# Altium schematic symbol library SCHLIBS.SchLib: 9 symbols
Pins are listed as number, name and electrical type; pins without a type are passive.

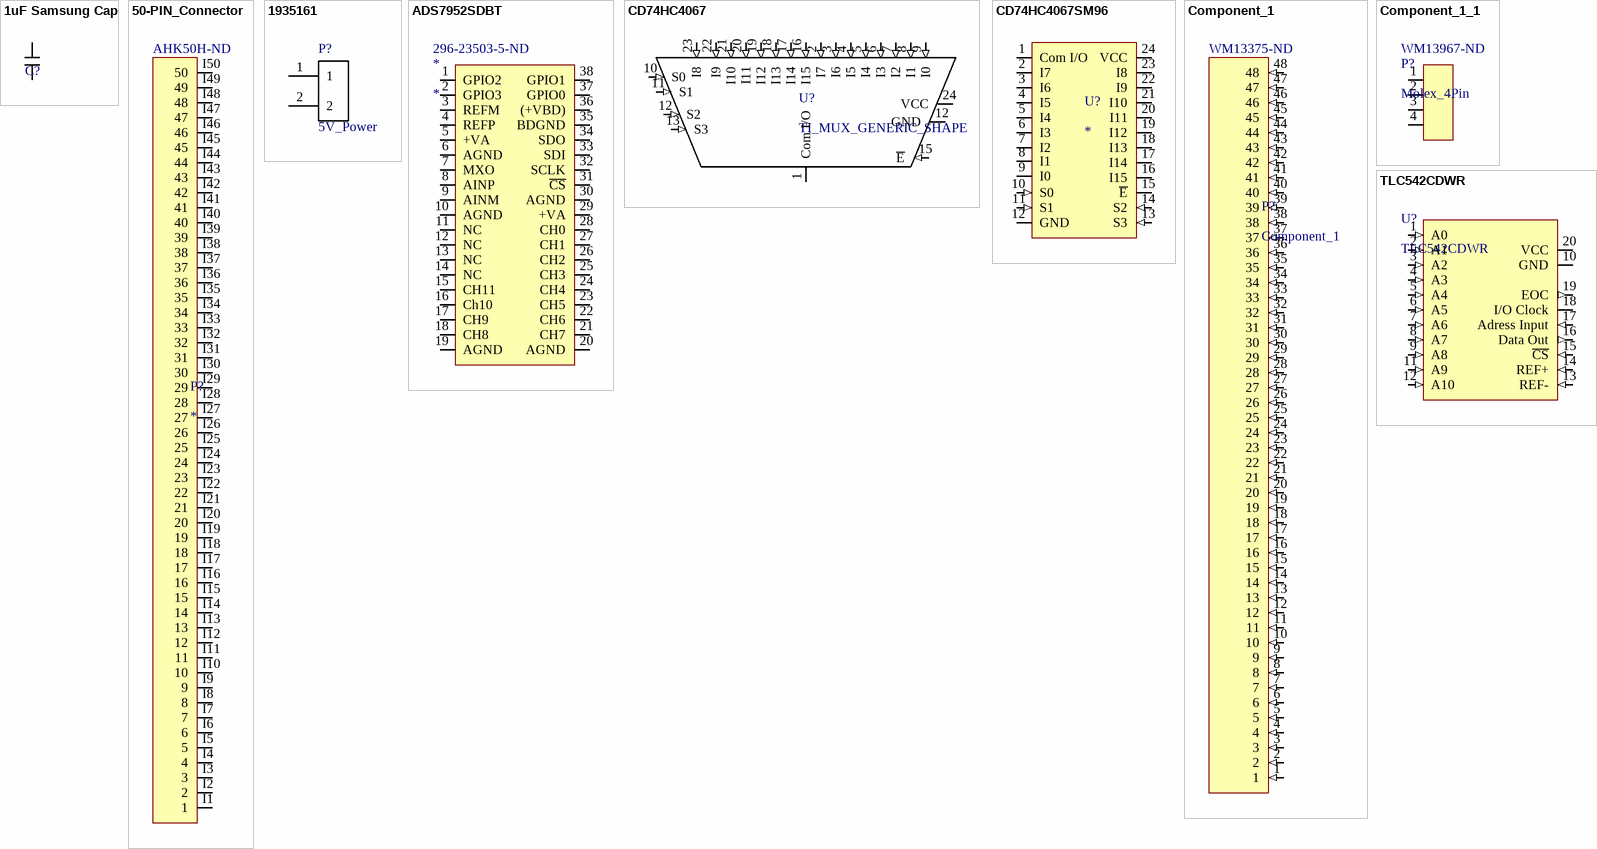
[diagram p0: symbols 1uF Samsung Cap to TLC542CDWR]

## 1uF Samsung Cap
designator C?  (value not drawn)
1uF Samsung Cap; Supplier 1: Digi-Key; Supplier Part Number 1: 1276-1946-1-ND
footprint 1uf_Samsung (Chip Capacitor, 2-Leads, Body 1.60x0.80mm, IPC Low Density)
pins: 1, 2

## 50-PIN_Connector
designator P?  Supplier Part Number 1: AHK50H-ND
TE_CONN_VERT_50-PIN; Supplier 1: Digi-Key
pins: I1 1, I2 2, I3 3, I4 4, I5 5, I6 6, I7 7, I8 8, I9 9, I10 10, I11 11, I12 12, I13 13, I14 14, I15 15, I16 16, I17 17, I18 18, I19 19, I20 20, I21 21, I22 22, I23 23, I24 24, I25 25, I26 26, I27 27, I28 28, I29 29, I30 30, I31 31, I32 32, I33 33, I34 34, I35 35, I36 36, I37 37, I38 38, I39 39, I40 40, I41 41, I42 42, I43 43, I44 44, I45 45, I46 46, I47 47, I48 48, I49 49, I50 50

## 1935161
designator P?, comment 5V_Power
Conn Terminal Blocks 2 POS 5mm Solder ST Thru-Hole 16A; MF: Phoenix Contact; MP: 1935161; Package: None; Digi-Key_Purchase_URL: https://www.digikey.ca/product-detail/en/phoenix-contact/1935161/277-1667-ND/568614?utm_source=snapeda&utm_medium=aggregator&utm_campaign=symbol; Digi-Key_Part_Number: 277-1667-ND; SnapEDA_Link: https://www.snapeda.com/parts/1935161/Phoenix%20Contact/view-part/?ref=snap; Value: *
footprint PHOENIX_1935161
pins: 1, 2

## ADS7952SDBT
designator *  Supplier Part Number 1: 296-23503-5-ND
Supplier 1: Digi-Key
footprint TSSOP50P640X120-38N (TSSOP, 38-Leads, Body 9.70x4.40mm, Pitch 0.50mm, IPC Medium Density)
pins: 1 GPIO2, 2 GPIO3, 3 REFM, 4 REFP, 5 +VA, 6 AGND, 7 MXO, 8 AINP, 9 AINM, 10 AGND, 11 NC, 12 NC, 13 NC, 14 NC, 15 CH11, 16 Ch10, 17 CH9, 18 CH8, 19 AGND, 20 AGND, 21 CH7, 22 CH6, 23 CH5, 24 CH4, 25 CH3, 26 CH2, 27 CH1, 28 CH0, 29 +VA, 30 AGND, 31 ~{CS}, 32 SCLK, 33 SDI, 34 SDO, 35 BDGND, 36 (+VBD), 37 GPIO0, 38 GPIO1

## CD74HC4067
designator U?, comment TI_MUX_GENERIC_SHAPE
TI SOIC-24 MUX; Supplier 1: Digi-Key; Supplier 2: Digi-Key; Supplier Part Number 2: 296-29408-1-ND
footprint SOIC-24_MUX (SOIC, 24-Leads, Body 15.40x7.50mm, Pitch 1.27mm, IPC Medium Density)
pins: 1 Com I/O (io), 2 I7 (in), 3 I6 (in), 4 I5 (in), 5 I4 (in), 6 I3 (in), 7 I2 (in), 8 I1 (in), 9 I0 (in), 10 S0 (in), 11 S1 (in), 12 GND, 12 S2 (in), 13 S3 (in), 15 ~{E} (in), 16 I15 (in), 17 I14 (in), 18 I13 (in), 19 I12 (in), 20 I11 (in), 21 I10 (in), 22 I9 (in), 23 I8 (in), 24 VCC

## CD74HC4067SM96
designator U?
CD74HC4067SM96; Supplier Part Number 1: 05B6161; Supplier 1: Newark
footprint SOIC-24_MUX (SOIC, 24-Leads, Body 15.40x7.50mm, Pitch 1.27mm, IPC Medium Density)
pins: 1 Com I/O, 2 I7, 3 I6, 4 I5, 5 I4, 6 I3, 7 I2, 8 I1, 9 I0, 10 S0 (in), 11 S1 (in), 12 GND, 13 S3 (in), 14 S2 (in), 15 ~{E}, 16 I15, 17 I14, 18 I13, 19 I12, 20 I11, 21 I10, 22 I9, 23 I8, 24 VCC

## Component_1
designator P?  Supplier Part Number 1: WM13375-ND
CONN CMC HEADER 48POS R/A BROWN; Supplier 1: Digi-Key
footprint Molex CMC 36638 (48 Pin Connector)
pins: 1 (in), 2 (in), 3 (in), 4 (in), 5 (in), 6 (in), 7 (in), 8 (in), 9 (in), 10 (in), 11 (in), 12 (in), 13 (in), 14 (in), 15 (in), 16 (in), 17 (in), 18 (in), 19 (in), 20 (in), 21 (in), 22 (in), 23 (in), 24 (in), 25 (in), 26 (in), 27 (in), 28 (in), 29 (in), 30 (in), 31 (in), 32 (in), 33 (in), 34 (in), 35 (in), 36 (in), 37 (in), 38 (in), 39 (in), 40 (in), 41 (in), 42 (in), 43 (in), 44 (in), 45 (in), 46 (in), 47 (in), 48 (in)

## Component_1_1
designator P?, comment Molex_4Pin  Supplier Part Number 1: WM13967-ND
Supplier 1: Digi-Key
footprint MUX_SEL_CON
pins: 1, 2, 3, 4

## TLC542CDWR
designator U?
IC 8-BIT 11-CH A/D CONV 20-SOIC; Manufacture: TI; Manufacture P/N: TLC542CDWR; Notes: *; Supplier 1: Digi-Key; Supplier Part Number 1: 296-1332-2-ND
footprint SOIC-20_ADC (SOIC, 20-Leads, Body 12.79x7.50mm, Pitch 1.27mm, IPC Medium Density)
pins: 1 A0 (in), 2 A1 (in), 3 A2 (in), 4 A3 (in), 5 A4 (in), 6 A5 (in), 7 A6 (in), 8 A7 (in), 9 A8 (in), 10 GND (power), 11 A9 (in), 12 A10 (in), 13 REF- (in), 14 REF+ (in), 15 ~{CS} (in), 16 Data Out (out), 17 Adress Input (in), 18 I/O Clock (io), 19 EOC (out), 20 VCC (power)